# Altium schematic symbol library HXD019.SchLib: 1 symbol
Pins are listed as number, name and electrical type; pins without a type are passive.

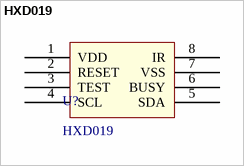
[diagram p0: symbol HXD019]

## HXD019
designator U?
footprint SOP8 (Small Outline; 8 Leads; Body Width 4.3 mm; Pitch 1.27 mm)
pins: 1 VDD, 2 RESET, 3 TEST, 4 SCL, 5 SDA, 6 BUSY, 7 VSS, 8 IR